# EAGLE library part DF13-15P-1.25? (library pixhawk2)
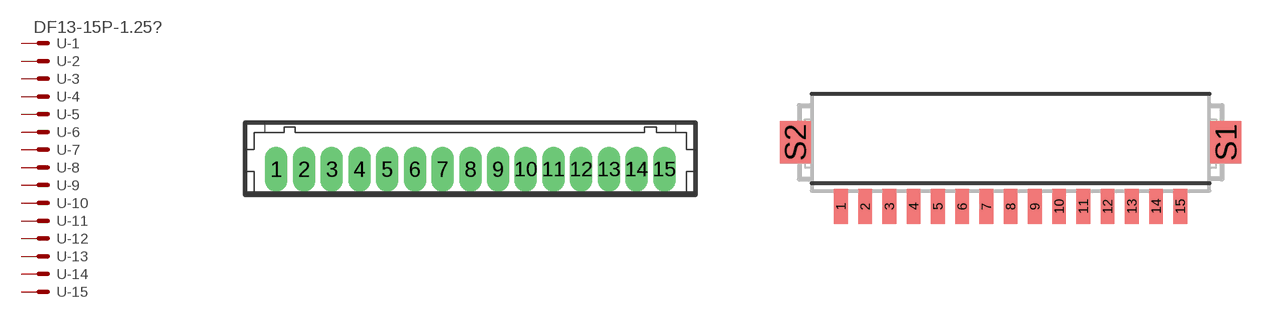
[diagram p44: symbol with the pads of DF13-15P-1.25DSA; footprints DF13-15P-1.25DSA, DF13A-15P-1.25H]

Designator prefix -; gates -1=MV -2=M -3=M -4=M -5=M -6=M -7=M -8=M -9=M -10=M -11=M -12=M -13=M -14=M -15=M

## DF13-15P-1.25DSA  [DF13-15P-1.25DSA]
1  -1:S  pas
2  -2:S  pas
3  -3:S  pas
4  -4:S  pas
5  -5:S  pas
6  -6:S  pas
7  -7:S  pas
8  -8:S  pas
9  -9:S  pas
10  -10:S  pas
11  -11:S  pas
12  -12:S  pas
13  -13:S  pas
14  -14:S  pas
15  -15:S  pas

## DF13-15P-1.25H  [DF13A-15P-1.25H]
Pads as for DF13-15P-1.25DSA

## Footprint DF13-15P-1.25DSA (pad centres in mm)
drill 0.5 pad 0.8 long: 1 -8.75,0; 2 -7.5,0; 3 -6.25,0; 4 -5,0; 5 -3.75,0; 6 -2.5,0; 7 -1.25,0; 8 0,0; 9 1.25,0; 10 2.5,0; 11 3.75,0; 12 5,0; 13 6.25,0; 14 7.5,0; 15 8.75,0

## Footprint DF13A-15P-1.25H (pad centres in mm)
Hirose DF13 A 15 pos 1.25 mm pitch 1A connector
smd 0.7 x 1.8: 1 -8.75,-3.3; 2 -7.5,-3.3; 3 -6.25,-3.3; 4 -5,-3.3; 5 -3.75,-3.3; 6 -2.5,-3.3; 7 -1.25,-3.3; 8 0,-3.3; 9 1.25,-3.3; 10 2.5,-3.3; 11 3.75,-3.3; 12 5,-3.3; 13 6.25,-3.3; 14 7.5,-3.3; 15 8.75,-3.3
smd 1.6 x 2.2: S1 11.1,0; S2 -11.1,0